# Altium schematic symbol library DT1140-04LP.SchLib: 1 symbol
Pins are listed as number, name and electrical type; pins without a type are passive.

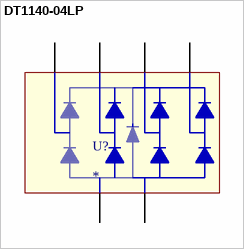
[diagram p0: symbol DT1140-04LP]

## DT1140-04LP
designator U?
pins: 1, 2, 3, 4, 5, 8